# EAGLE library part TLP172AM_TPR,E (library TLP172AM_TPR_E)
MOSFET Output Optocouplers Photorelay 1-Form-A VOFF=60V 0.5A 2Ohm Source: Datasheet <https://toshiba.semicon-storage.com/info/docget.jsp?did=36714&prodName=TLP172AM>
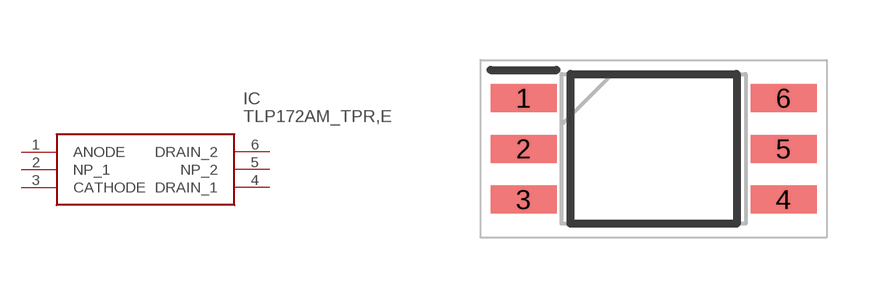
[diagram p0: symbol with the pads of SOIC127P700X230-6N; footprint SOIC127P700X230-6N]

Designator prefix IC

## TLP172AM_TPR,E (Description: MOSFET Output Optocouplers Photorelay 1-Form-A VOFF=60V 0.5A 2Ohm; Height: 2.3mm; Manufacturer_Name: Toshiba; Manufacturer_Part_Number: TLP172AM(TPR,E; Mouser_Part_Number: 757-TLP172AMTPRE; Mouser_Price-Stock: https://www.mouser.co.uk/ProductDetail/Toshiba/TLP172AMTPRE?qs=6ZHl3BmPMW1g8abCQD%2F8ag%3D%3D)  [SOIC127P700X230-6N]
1  ANODE
2  NP_1
3  CATHODE
4  DRAIN_1
5  NP_2
6  DRAIN_2

## Footprint SOIC127P700X230-6N (pad centres in mm)
TLP172AM(TPR,E
smd 1.65 x 0.7: 1 -3.25,1.27; 2 -3.25,0; 3 -3.25,-1.27; 4 3.25,-1.27; 5 3.25,0; 6 3.25,1.27